# Altium schematic symbol library CRCW060344K2FKEA.SchLib: 1 symbol
Pins are listed as number, name and electrical type; pins without a type are passive.

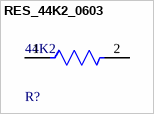
[diagram p0: symbol RES_44K2_0603]

## RES_44K2_0603
designator R?, comment 44K2
-55℃~+155℃ 100mW 44.2kΩ Thick Film Resistor ±1% ±100ppm/℃ 0603 Chip Resistor - Surface Mount ROHS; Resistance: 44.2kR; Voltage Rating: 75V; Temperature Coefficient: 100ppm/°C; Height: 0.45mm; Min Operating Temperature: -55°C; Contact Plating: Tin; Max Power Dissipation: 100mW; Termination: SMD/SMT; Case Code (Imperial): 0603; Max Operating Temperature: 155°C; Features: Automotive AEC-Q200; Power Rating: 100mW; Weight: 7.1E-05oz; Composition: Thick Film; Radiation Hardening: No; Length: 1.55mm; Lead Free: Lead Free; Case/Package: 0603; Depth: 0.85mm; Tolerance: 1%; Package Quantity: 10; Packaging: Tape and Reel; Case Code (Metric): 1608; Number of Terminations: 2; Voltage Rating (DC): 75V; Military Standard: Not; Width: 0.85mm
footprint FP-CRCW0603-e3-MFG
footprint FP-CRCW0603-e3-IPC_A
footprint FP-CRCW0603-e3-IPC_B
footprint FP-CRCW0603-e3-IPC_C
pins: 1, 2